# EAGLE library part SST26VF032B (library ic)
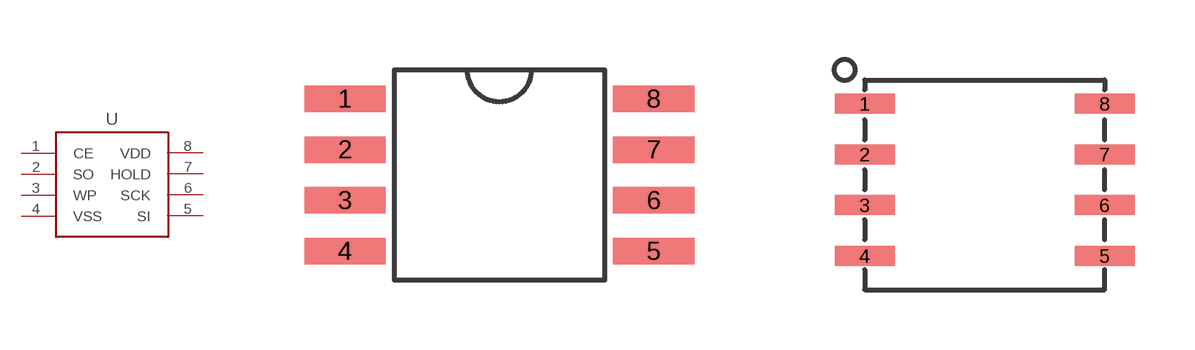
[diagram p5: symbol with the pads of SOIC8; footprints SOIC8, WDFN8]

Designator prefix U

## SST26VF032BSOIC  [SOIC8]
1  CE
2  SO
3  WP
4  VSS
5  SI
6  SCK
7  HOLD
8  VDD

## SST26VF032BWDFN  [WDFN8]
Pads as for SOIC8

## Footprint SOIC8 (pad centres in mm)
smd 2.032 x 0.66: 1 -3.861,1.905; 2 -3.861,0.635; 3 -3.861,-0.635; 4 -3.861,-1.905; 5 3.861,-1.905; 6 3.861,-0.635; 7 3.861,0.635; 8 3.861,1.905

## Footprint WDFN8 (pad centres in mm)
smd 1.5 x 0.5: 1 -3,1.905; 2 -3,0.635; 3 -3,-0.635; 4 -3,-1.905; 5 3,-1.905; 6 3,-0.635; 7 3,0.635; 8 3,1.905